# Altium integrated library Infineon_Power_IGBT.IntLib: 226 symbols (part 1 of 8)
Pins are listed as number, name and electrical type; pins without a type are passive.

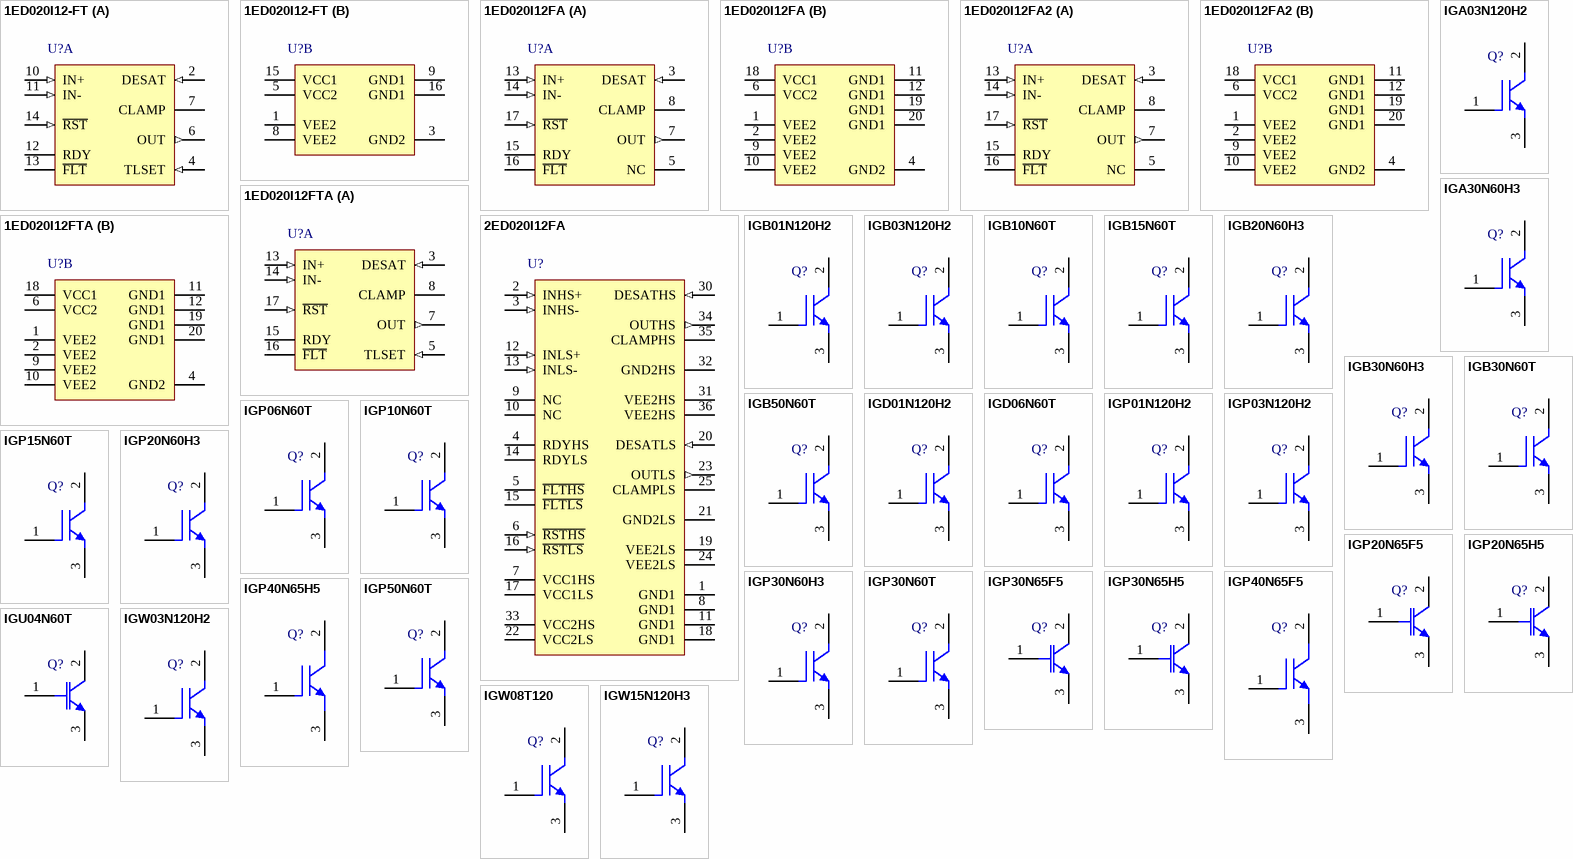
[diagram p0: symbols 1ED020I12-FT to IGW15N120H3]

## 1ED020I12-FT
designator U?
Single IGBT Driver IC, PG-DSO-16-15, Reel, Green; Manufacturer: Infineon; PartNumber: 1ED020I12-FT; Fault Reporting: DESAT; Green: TRUE; Shutdown/Enable: /RST; Tj (max): 150 degC; Turn On Propagation Delay (max): 2,000 ns; UVLO_ON_max: 12.6 V; DatasheetVersion: Rev. 2.0; PackageVersion: Rev. 02, 07/2012; PackageReference: PG-DSO-16-15; PackageDescription: 16-Pin Plastic (Green) Dual Small Outline Package, 10.34 x 7.505 mm Body, 1.27 mm Pitch; Halogen-free: TRUE; Topology: Single; Mounting Technology: Surface Mount; ComponentLink1Description: Manufacturer URL; ComponentLink1URL: http://www.infineon.com/; ComponentLink2Description: Datasheet; ComponentLink2URL: http://www.infineon.com/dgdl/1ED020I12-FT_DS_rev2+0.pdf?folderId=db3a30432b16d655012b33fafdac11e2&fileId=db3a304333227b5e013344c578544cc4; ComponentLink3Description: Package Specification; ComponentLink3URL: http://www.infineon.com/dgdl/1ED020I12-B2_DS_rev2+0.pdf?folderId=db3a30432b16d655012b33fafdac11e2&fileId=db3a304333227b5e013344bf16f84ca6
footprint INF-PG-DSO-16-15_A_N (SOP, 16-Leads, Body 10.34x7.505mm, Pitch 1.27mm, IPC Medium Density)
footprint INF-PG-DSO-16-15_A_L (SOP, 16-Leads, Body 10.34x7.505mm, Pitch 1.27mm, IPC High Density)
footprint INF-PG-DSO-16-15_A_M (SOP, 16-Leads, Body 10.34x7.505mm, Pitch 1.27mm, IPC Low Density)
part A pins: 2 DESAT (in) "Desaturation protection", 4 TLSET (in) "Two level set", 6 OUT (out) "Driver output", 7 CLAMP "Miller clamping", 10 IN+ (in) "Non inverted driver input", 11 IN- (in) "Inverted driver input", 12 RDY (oc) "Ready output", 13 ~{FLT} (oc) "Fault output, low active", 14 ~{RST} (in) "Reset input, low active"
part B pins: 1 VEE2 (power) "Negative power supply output side", 3 GND2 (power) "Signal ground output side", 5 VCC2 (power) "Positive power supply output side", 8 VEE2 (power) "Negative power supply output side", 9 GND1 (power) "Ground input side", 15 VCC1 (power) "Positive power supply input side", 16 GND1 (power) "Ground input side"

## 1ED020I12FA
designator U?
Single IGBT Driver IC, PG-DSO-20-55, Reel, Green; Manufacturer: Infineon; PartNumber: 1ED020I12FA; Fault Reporting: DESAT; Green: TRUE; Shutdown/Enable: /RST; Tj (max): 150 degC; Topology: Single (Automotive Qualified); Turn On Propagation Delay (max): 205 ns; UVLO_ON_max: 12.6 V; DatasheetVersion: Rev. 2.1; PackageVersion: Dec-12; PackageReference: PG-DSO-20-55; PackageDescription: 20-Pin Plastic (Green) Dual Small Outline Package, 12.7 x 7.5 mm Body, 1.27 mm Pitch; Supplier 1: Mouser; Supplier Part Number 1: N/A; Halogen-free: TRUE; Mounting Technology: Surface Mount; ComponentLink1Description: Manufacturer URL; ComponentLink1URL: http://www.infineon.com/; ComponentLink2Description: Datasheet; ComponentLink2URL: http://www.infineon.com/dgdl/Datasheet_1ED020I12FA_V2+1.pdf?folderId=db3a30431a5c32f2011a77fa27a86cb5&fileId=db3a30431b3e89eb011bb25ba9350792; ComponentLink3Description: Package Specification; ComponentLink3URL: http://www.infineon.com/dgdl/1ED020I12FA2_PDS_rev1.2.pdf?folderId=db3a30432b16d655012b33fafdac11e2&fileId=db3a304333227b5e013344d078be4cdf
footprint INF-PG-DSO-20-55_N (SOP, 20-Leads, Body 12.7x7.5mm, Pitch 1.27mm, IPC Medium Density)
footprint INF-PG-DSO-20-55_L (SOP, 20-Leads, Body 12.7x7.5mm, Pitch 1.27mm, IPC High Density)
footprint INF-PG-DSO-20-55_M (SOP, 20-Leads, Body 12.7x7.5mm, Pitch 1.27mm, IPC Low Density)
part A pins: 3 DESAT (in) "Desaturation protection", 5 NC "Not connected", 7 OUT (out) "Driver output", 8 CLAMP "Miller clamping", 13 IN+ (in) "Non inverted driver input", 14 IN- (in) "Inverted driver input", 15 RDY (oc) "Ready output", 16 ~{FLT} (oc) "Fault output, low active", 17 ~{RST} (in) "Reset input, low active"
part B pins: 1 VEE2 (power) "Negative power supply output side", 2 VEE2 (power) "Negative power supply output side", 4 GND2 (power) "Signal ground output side", 6 VCC2 (power) "Positive power supply output side", 9 VEE2 (power) "Negative power supply output side", 10 VEE2 (power) "Negative power supply output side", 11 GND1 (power) "Ground input side", 12 GND1 (power) "Ground input side", 18 VCC1 (power) "Positive power supply input side", 19 GND1 (power) "Ground input side", 20 GND1 (power) "Ground input side"

## 1ED020I12FA2
designator U?
Single IGBT Driver IC, PG-DSO-20-55, Reel, Green; Manufacturer: Infineon; PartNumber: 1ED020I12FA2; Fault Reporting: DESAT; Green: TRUE; Shutdown/Enable: /RST; Tj (max): 150 degC; Topology: Single (Automotive Qualified); Turn On Propagation Delay (max): 195 ns; UVLO_ON_max: 12.6 V; DatasheetVersion: Rev. 1.2; PackageVersion: Dec-12; PackageReference: PG-DSO-20-55; PackageDescription: 20-Pin Plastic (Green) Dual Small Outline Package, 12.7 x 7.5 mm Body, 1.27 mm Pitch; Supplier 1: Mouser; Supplier Part Number 1: N/A; Halogen-free: TRUE; Mounting Technology: Surface Mount; ComponentLink1Description: Manufacturer URL; ComponentLink1URL: http://www.infineon.com/; ComponentLink2Description: Datasheet; ComponentLink2URL: http://www.infineon.com/dgdl/1ED020I12FA2_PDS_rev1.2.pdf?folderId=db3a30432b16d655012b33fafdac11e2&fileId=db3a304333227b5e013344d078be4cdf; ComponentLink3Description: Package Specification; ComponentLink3URL: http://www.infineon.com/dgdl/1ED020I12FA2_PDS_rev1.2.pdf?folderId=db3a30432b16d655012b33fafdac11e2&fileId=db3a304333227b5e013344d078be4cdf
footprint INF-PG-DSO-20-55_N (SOP, 20-Leads, Body 12.7x7.5mm, Pitch 1.27mm, IPC Medium Density)
footprint INF-PG-DSO-20-55_L (SOP, 20-Leads, Body 12.7x7.5mm, Pitch 1.27mm, IPC High Density)
footprint INF-PG-DSO-20-55_M (SOP, 20-Leads, Body 12.7x7.5mm, Pitch 1.27mm, IPC Low Density)
part A pins: 3 DESAT (in) "Desaturation protection", 5 NC "Not connected", 7 OUT (out) "Driver output", 8 CLAMP "Miller clamping", 13 IN+ (in) "Non inverted driver input", 14 IN- (in) "Inverted driver input", 15 RDY (oc) "Ready output", 16 ~{FLT} (oc) "Fault output, low active", 17 ~{RST} (in) "Reset input, low active"
part B pins: 1 VEE2 (power) "Negative power supply output side", 2 VEE2 (power) "Negative power supply output side", 4 GND2 (power) "Signal ground output side", 6 VCC2 (power) "Positive power supply output side", 9 VEE2 (power) "Negative power supply output side", 10 VEE2 (power) "Negative power supply output side", 11 GND1 (power) "Ground input side", 12 GND1 (power) "Ground input side", 18 VCC1 (power) "Positive power supply input side", 19 GND1 (power) "Ground input side", 20 GND1 (power) "Ground input side"

## 1ED020I12FTA
designator U?
Single IGBT Driver IC, PG-DSO-20-55, Reel, Green; Manufacturer: Infineon; PartNumber: 1ED020I12FTA; Fault Reporting: DESAT; Green: TRUE; Shutdown/Enable: /RST; Tj (max): 150 degC; Topology: Single (Automotive Qualified); Turn On Propagation Delay (max): 2,000 ns; UVLO_ON_max: 12.6 V; DatasheetVersion: Rev. 2.0; PackageVersion: Dec-12; PackageReference: PG-DSO-20-55; PackageDescription: 20-Pin Plastic (Green) Dual Small Outline Package, 12.7 x 7.5 mm Body, 1.27 mm Pitch; Halogen-free: TRUE; Mounting Technology: Surface Mount; ComponentLink1Description: Manufacturer URL; ComponentLink1URL: http://www.infineon.com/; ComponentLink2Description: Datasheet; ComponentLink2URL: http://www.infineon.com/dgdl/DS_1ED020I12FTA_rev2_0.pdf?folderId=db3a30432b16d655012b33fafdac11e2&fileId=db3a30432e779412012e7b85bdb73874; ComponentLink3Description: Package Specification; ComponentLink3URL: http://www.infineon.com/dgdl/1ED020I12FA2_PDS_rev1.2.pdf?folderId=db3a30432b16d655012b33fafdac11e2&fileId=db3a304333227b5e013344d078be4cdf
footprint INF-PG-DSO-20-55_N (SOP, 20-Leads, Body 12.7x7.5mm, Pitch 1.27mm, IPC Medium Density)
footprint INF-PG-DSO-20-55_L (SOP, 20-Leads, Body 12.7x7.5mm, Pitch 1.27mm, IPC High Density)
footprint INF-PG-DSO-20-55_M (SOP, 20-Leads, Body 12.7x7.5mm, Pitch 1.27mm, IPC Low Density)
part A pins: 3 DESAT (in) "Desaturation protection", 5 TLSET (in) "Two level set", 7 OUT (out) "Driver output", 8 CLAMP "Miller clamping", 13 IN+ (in) "Non inverted driver input", 14 IN- (in) "Inverted driver input", 15 RDY (oc) "Ready output", 16 ~{FLT} (oc) "Fault output, low active", 17 ~{RST} (in) "Reset input, low active"
part B pins: 1 VEE2 (power) "Negative power supply output side", 2 VEE2 (power) "Negative power supply output side", 4 GND2 (power) "Signal ground output side", 6 VCC2 (power) "Positive power supply output side", 9 VEE2 (power) "Negative power supply output side", 10 VEE2 (power) "Negative power supply output side", 11 GND1 (power) "Ground input side", 12 GND1 (power) "Ground input side", 18 VCC1 (power) "Positive power supply input side", 19 GND1 (power) "Ground input side", 20 GND1 (power) "Ground input side"

## 2ED020I12FA
designator U?
Dual IGBT Driver IC, PG-DSO-36-58, Reel, Green; Manufacturer: Infineon; PartNumber: 2ED020I12FA; Fault Reporting: DESAT; Green: TRUE; Shutdown/Enable: /RST; Tj (max): 150 degC; Topology: Dual (Automotive Qualified); Turn On Propagation Delay (max): 195 ns; UVLO_ON_max: 12.6 V; DatasheetVersion: Rev. 2.0; PackageVersion: Rev. 02, 03/2011; PackageReference: PG-DSO-36-58; PackageDescription: 36-Pin Plastic (Green) Dual Small Outline Package, 12.7 x 7.5 mm Body, 0.65 mm Ptich; Halogen-free: TRUE; Mounting Technology: Surface Mount; ComponentLink1Description: Manufacturer URL; ComponentLink1URL: http://www.infineon.com/; ComponentLink2Description: Datasheet; ComponentLink2URL: http://www.infineon.com/dgdl/2ED020I12FA_DS_rev2.pdf?folderId=db3a30432b16d655012b33fafdac11e2&fileId=db3a30432e779412012e7b87d2b23878; ComponentLink3Description: Package Specification; ComponentLink3URL: http://www.infineon.com/dgdl/2ED020I12-F2_DS_rev2+0.pdf?folderId=db3a30432b16d655012b33fafdac11e2&fileId=db3a304333227b5e013344c70fc64cc8
footprint INF-PG-DSO-36-58_N (SOP, 32-Leads, Body 12.7x7.5mm, Pitch 0.65mm, IPC Medium Density)
footprint INF-PG-DSO-36-58_L (SOP, 32-Leads, Body 12.7x7.5mm, Pitch 0.65mm, IPC High Density)
footprint INF-PG-DSO-36-58_M (SOP, 32-Leads, Body 12.7x7.5mm, Pitch 0.65mm, IPC Low Density)
pins: 1 GND1 (power) "Common ground input side", 2 INHS+ (in) "Non inverted driver input high side", 3 INHS- (in) "Inverted driver input high side", 4 RDYHS (oc) "Ready output high side", 5 ~{FLTHS} (oc) "Inverted fault output high side", 6 ~{RSTHS} (in) "Inverted reset input high side", 7 VCC1HS (power) "Positive power supply input high side", 8 GND1 (power) "Common ground input side", 9 NC "Not used, internally connected to Pin 10", 10 NC "Not used, internally connected to Pin 9", 11 GND1 (power) "Common ground input side", 12 INLS+ (in) "Non inverted driver input low side", 13 INLS- (in) "Inverted driver input lowside", 14 RDYLS (oc) "Ready output low side", 15 ~{FLTLS} (oc) "Inverted fault output low side", 16 ~{RSTLS} (in) "Inverted reset input low side", 17 VCC1LS (power) "Positive power supply input low side", 18 GND1 (power) "Common ground input side", 19 VEE2LS (power) "Negative power supply low side driver", 20 DESATLS (in) "Desaturation protection low side driver", 21 GND2LS (power) "Signal ground low side driver", 22 VCC2LS (power) "Power supply low side driver", 23 OUTLS (out) "Output low side driver", 24 VEE2LS (power) "Negative power supply low side driver", 25 CLAMPLS "Miller clamping low side driver", 30 DESATHS (in) "Desaturation protection high side driver", 31 VEE2HS (power) "Negative power supply high side driver", 32 GND2HS (power) "Signal ground high side driver", 33 VCC2HS (power) "Power supply high side driver", 34 OUTHS (out) "Output high side driver", 35 CLAMPHS "Miller clamping high side driver", 36 VEE2HS (power) "Negative power supply high side driver"

## IGA03N120H2
designator Q?
High Speed 2-Technology IGBT, PG-TO-220-3-31, Tube, Green; Manufacturer: Infineon; PartNumber: IGA03N120H2; Green: TRUE; Switching Frequency: HighSpeed2 30-100 kHz; VCE (max): 1,200 V; VCE(sat) (typ): 2.2 V; DatasheetVersion: Rev. 2.2; PackageVersion: Jul-06; PackageReference: PG-TO-220-3-31; PackageDescription: 3-Pin Plastic (Green) Transistor Single Outline Package, 10.5 x 4.7 mm, 2.54 mm Pitch; Supplier 1: Mouser; Supplier Part Number 1: 726-IGA03N120H2; Supplier 2: Newark; Supplier Part Number 2: 13T9407; Supplier 3: Farnell; Supplier Part Number 3: 1832369; Supplier 4: Digi-Key; Supplier Part Number 4: IGA03N120H2-ND; Halogen-free: FALSE; Packing: Tube; Mounting Technology: Through Hole; ComponentLink1Description: Manufacturer URL; ComponentLink1URL: http://www.infineon.com/; ComponentLink2Description: Datasheet; ComponentLink2URL: http://www.infineon.com/dgdl/IGA03N120H2_Rev2_2G.pdf?folderId=db3a304412b407950112b408e8c90004&fileId=db3a304412b407950112b427a9d73c91; ComponentLink3Description: Package Specification; ComponentLink3URL: http://www.infineon.com/dgdl/IKA03N120H2_Rev2_2G.pdf?folderId=db3a304412b407950112b408e8c90004&fileId=db3a304412b407950112b428518b3dcb
footprint INF-PG-TO-220-3-31 (FM, 3-Leads, Body 10.5x4.7mm, Pitch 2.54mm)
pins: 1 G, 2 C, 3 E

## IGA30N60H3
designator Q?
High Speed Switching Series Third Generation, PG-TO-220-3-31, Tube, Green; Manufacturer: Infineon; PartNumber: IGA30N60H3; Green: TRUE; IC(max) @ 100 degC: 11 A; IC(max) @ 25 degC: 18 A; Switching Frequency: HighSpeed3 20-100kHz; VCE (max): 600 V; VCE(sat) (typ): 1.95 V; DatasheetVersion: Rev. 2.1; PackageVersion: Jul-06; PackageReference: PG-TO-220-3-31; PackageDescription: 3-Pin Plastic (Green) Transistor Single Outline Package, 10.5 x 4.7 mm, 2.54 mm Pitch; Supplier 1: Mouser; Supplier Part Number 1: 726-IGA30N60H3; Supplier 2: Digi-Key; Supplier Part Number 2: IGA30N60H3-ND; Halogen-free: TRUE; Packing: Tube; Mounting Technology: Through Hole; ComponentLink1Description: Manufacturer URL; ComponentLink1URL: http://www.infineon.com/; ComponentLink2Description: Datasheet; ComponentLink2URL: http://www.infineon.com/dgdl/IGA30N60H3_Rev2_1G.pdf?folderId=db3a3043156fd5730115f56849b61941&fileId=db3a30432a14dd54012a1d771f65563f; ComponentLink3Description: Package Specification; ComponentLink3URL: http://www.infineon.com/dgdl/IKA03N120H2_Rev2_2G.pdf?folderId=db3a304412b407950112b408e8c90004&fileId=db3a304412b407950112b428518b3dcb
footprint INF-PG-TO-220-3-31 (FM, 3-Leads, Body 10.5x4.7mm, Pitch 2.54mm)
pins: 1 G, 2 C, 3 E

## IGB01N120H2
designator Q?
High Speed 2-Technology IGBT, PG-TO-263-3-2, Reel, Green; Manufacturer: Infineon; PartNumber: IGB01N120H2; Green: TRUE; IC(max) @ 100 degC: 1.3 A; IC(max) @ 25 degC: 3.2 A; Switching Frequency: HighSpeed2 30-100 kHz; VCE (max): 1,200 V; VCE(sat) (typ): 2.2 V; DatasheetVersion: Rev. 2.4; PackageVersion: Rev. 01, 08/2007; PackageReference: PG-TO263-3-2; PackageDescription: 3-Pin Plastic (Green) Transistor Single Outline Package, 10.1 x 8.98 mm Body, 2.54 mm Pitch; Supplier 1: Mouser; Supplier Part Number 1: 726-IGB01N120H2; Supplier 2: Digi-Key; Supplier Part Number 2: IGB01N120H2-ND; Halogen-free: TRUE; Packing: Reel; Mounting Technology: Surface Mount; ComponentLink1Description: Manufacturer URL; ComponentLink1URL: http://www.infineon.com/; ComponentLink2Description: Datasheet; ComponentLink2URL: http://www.infineon.com/dgdl/IGB01N120H2_Rev2_4G.pdf?folderId=db3a304412b407950112b408e8c90004&fileId=db3a304412b407950112b427a4883c86; ComponentLink3Description: Package Specification; ComponentLink3URL: http://www.infineon.com/dgdl/SPB80P06P+G_Rev+1.6_.pdf?folderId=db3a304412b407950112b408e8c90004&fileId=db3a304412b407950112b42add964408
footprint INF-PG-TO263-3-2_A_N (DPAK, 3-Leads, Body 10.1x8.98mm, Pitch 2.54mm, IPC Medium Density)
footprint INF-PG-TO263-3-2_A_L (DPAK, 3-Leads, Body 10.1x8.98mm, Pitch 2.54mm, IPC High Density)
footprint INF-PG-TO263-3-2_A_M (DPAK, 3-Leads, Body 10.1x8.98mm, Pitch 2.54mm, IPC Low Density)
pins: 1 G, 2 C, 3 E

## IGB03N120H2
designator Q?
High Speed 2-Technology IGBT, PG-TO-263-3-2, Reel, Green; Manufacturer: Infineon; PartNumber: IGB03N120H2; Green: TRUE; IC(max) @ 100 degC: 3.9 A; IC(max) @ 25 degC: 9.6 A; Switching Frequency: HighSpeed2 30-100 kHz; VCE (max): 1,200 V; VCE(sat) (typ): 2.2 V; DatasheetVersion: Rev. 2.4; PackageVersion: Rev. 01, 08/2007; PackageReference: PG-TO-263-3-2; PackageDescription: 3-Pin Plastic (Green) Transistor Single Outline Package, 10.06 x 8.98 mm Body, 2.54 mm Pitch; Supplier 1: Mouser; Supplier Part Number 1: 726-IGB03N120H2; Supplier 2: Newark; Supplier Part Number 2: 31T8231; Supplier 3: Farnell; Supplier Part Number 3: 1832370; Supplier 4: Digi-Key; Supplier Part Number 4: IGB03N120H2-ND; Halogen-free: TRUE; Packing: Reel; Mounting Technology: Surface Mount; ComponentLink1Description: Manufacturer URL; ComponentLink1URL: http://www.infineon.com/; ComponentLink2Description: Datasheet; ComponentLink2URL: http://www.infineon.com/dgdl/IGB03N120H2_Rev2_4G.pdf?folderId=db3a304412b407950112b408e8c90004&fileId=db3a304412b407950112b427af0c3c99; ComponentLink3Description: Package Specification; ComponentLink3URL: http://www.infineon.com/dgdl/IPB026N06N_Rev2.2.pdf?folderId=db3a304313b8b5a60113cee8763b02d7&fileId=db3a3043372d5cc8013754c7b2a74f7c
footprint INF-PG-TO-263-3-2_A_N (DPAK, 3-Leads, Body 10.06x8.98mm, Pitch 2.54mm, IPC Medium Density)
footprint INF-PG-TO-263-3-2_A_L (DPAK, 3-Leads, Body 10.06x8.98mm, Pitch 2.54mm, IPC High Density)
footprint INF-PG-TO-263-3-2_A_M (DPAK, 3-Leads, Body 10.06x8.98mm, Pitch 2.54mm, IPC Low Density)
pins: 1 G, 2 C, 3 E

## IGB10N60T
designator Q?
Low Loss IGBT in TrenchStop and Fieldstop Technology, PG-TO-263-3-2, Reel, Green; Manufacturer: Infineon; PartNumber: IGB10N60T; Green: TRUE; IC(max) @ 100 degC: 10 A; IC(max) @ 25 degC: 20 A; Switching Frequency: TRENCHSTOP 2-20kHz; VCE (max): 600 V; VCE(sat) (typ): 1.5 V; DatasheetVersion: Rev. 1.2; PackageVersion: Rev. 01, 08/2007; PackageReference: PG-TO-263-3-2; PackageDescription: 3-Pin Plastic (Green) Transistor Single Outline Package, 10.06 x 8.98 mm Body, 2.54 mm Pitch; Supplier 1: Mouser; Supplier Part Number 1: 726-IGB10N60T; Supplier 2: Newark; Supplier Part Number 2: 13T9409; Supplier 3: Farnell; Supplier Part Number 3: 1832352; Supplier 4: Digi-Key; Supplier Part Number 4: IGB10N60TTR-ND; Supplier 5: Digi-Key; Supplier Part Number 5: IGB10N60TCT-ND; Supplier 6: Digi-Key; Supplier Part Number 6: IGB10N60TDKR-ND; Halogen-free: TRUE; Packing: Reel; Mounting Technology: Surface Mount; ComponentLink1Description: Manufacturer URL; ComponentLink1URL: http://www.infineon.com/; ComponentLink2Description: Datasheet; ComponentLink2URL: http://www.infineon.com/dgdl/IGB10N60T_Rev1_2G.pdf?folderId=db3a30431c69a49d011c6f86019b00a1&fileId=db3a30431ed1d7b2011f4a5040f45e92; ComponentLink3Description: Package Specification; ComponentLink3URL: http://www.infineon.com/dgdl/IPB026N06N_Rev2.2.pdf?folderId=db3a304313b8b5a60113cee8763b02d7&fileId=db3a3043372d5cc8013754c7b2a74f7c
footprint INF-PG-TO-263-3-2_A_N (DPAK, 3-Leads, Body 10.06x8.98mm, Pitch 2.54mm, IPC Medium Density)
footprint INF-PG-TO-263-3-2_A_L (DPAK, 3-Leads, Body 10.06x8.98mm, Pitch 2.54mm, IPC High Density)
footprint INF-PG-TO-263-3-2_A_M (DPAK, 3-Leads, Body 10.06x8.98mm, Pitch 2.54mm, IPC Low Density)
pins: 1 G, 2 C, 3 E

## IGB15N60T
designator Q?
Low Loss IGBT in TrenchStop Technology, PG-TO-263-3-2, Reel, Green; Manufacturer: Infineon; PartNumber: IGB15N60T; Green: TRUE; IC(max) @ 100 degC: 15 A; IC(max) @ 25 degC: 30 A; Switching Frequency: TRENCHSTOP 2-20kHz; VCE (max): 600 V; VCE(sat) (typ): 1.5 V; DatasheetVersion: Rev. 2.4; PackageVersion: Rev. 01, 08/2007; PackageReference: PG-TO-263-3-2; PackageDescription: 3-Pin Plastic (Green) Transistor Single Outline Package, 10.06 x 8.98 mm Body, 2.54 mm Pitch; Supplier 1: Mouser; Supplier Part Number 1: 726-IGB15N60T; Supplier 2: Newark; Supplier Part Number 2: 13T9410; Supplier 3: Farnell; Supplier Part Number 3: 1832353; Supplier 4: Digi-Key; Supplier Part Number 4: IGB15N60T-ND; Halogen-free: TRUE; Packing: Reel; Mounting Technology: Surface Mount; ComponentLink1Description: Manufacturer URL; ComponentLink1URL: http://www.infineon.com/; ComponentLink2Description: Datasheet; ComponentLink2URL: http://www.infineon.com/dgdl/IGB15N60T+Rev2_4G.pdf?folderId=db3a304412b407950112b408e8c90004&fileId=db3a304412b407950112b428077f3d42; ComponentLink3Description: Package Specification; ComponentLink3URL: http://www.infineon.com/dgdl/IPB026N06N_Rev2.2.pdf?folderId=db3a304313b8b5a60113cee8763b02d7&fileId=db3a3043372d5cc8013754c7b2a74f7c
footprint INF-PG-TO-263-3-2_A_N (DPAK, 3-Leads, Body 10.06x8.98mm, Pitch 2.54mm, IPC Medium Density)
footprint INF-PG-TO-263-3-2_A_L (DPAK, 3-Leads, Body 10.06x8.98mm, Pitch 2.54mm, IPC High Density)
footprint INF-PG-TO-263-3-2_A_M (DPAK, 3-Leads, Body 10.06x8.98mm, Pitch 2.54mm, IPC Low Density)
pins: 1 G, 2 C, 3 E

## IGB20N60H3
designator Q?
600 V High Speed Switching Series Third Generation, PG-TO-263-3-2, Reel, Green; Manufacturer: Infineon; PartNumber: IGB20N60H3; Green: TRUE; IC(max) @ 100 degC: 20 A; IC(max) @ 25 degC: 40 A; Switching Frequency: HighSpeed3 20-100kHz; VCE (max): 600 V; VCE(sat) (typ): 1.95 V; DatasheetVersion: Rev. 1.1; PackageVersion: Rev. 01, 08/2007; PackageReference: PG-TO-263-3-2; PackageDescription: 3-Pin Plastic (Green) Transistor Single Outline Package, 10.06 x 8.98 mm Body, 2.54 mm Pitch; Supplier 1: Mouser; Supplier Part Number 1: 726-IGB20N60H3; Supplier 2: Digi-Key; Supplier Part Number 2: IGB20N60H3TR-ND; Supplier 3: Digi-Key; Supplier Part Number 3: IGB20N60H3CT-ND; Supplier 4: Digi-Key; Supplier Part Number 4: IGB20N60H3DKR-ND; Halogen-free: TRUE; Packing: Reel; Mounting Technology: Surface Mount; ComponentLink1Description: Manufacturer URL; ComponentLink1URL: http://www.infineon.com/; ComponentLink2Description: Datasheet; ComponentLink2URL: http://www.infineon.com/dgdl/IGB20N60H3_Rev1_1G.pdf?folderId=db3a30431c69a49d011c6f86019b00a1&fileId=db3a30432a40a650012a4677106a2b6d; ComponentLink3Description: Package Specification; ComponentLink3URL: http://www.infineon.com/dgdl/IPB026N06N_Rev2.2.pdf?folderId=db3a304313b8b5a60113cee8763b02d7&fileId=db3a3043372d5cc8013754c7b2a74f7c
footprint INF-PG-TO-263-3-2_A_N (DPAK, 3-Leads, Body 10.06x8.98mm, Pitch 2.54mm, IPC Medium Density)
footprint INF-PG-TO-263-3-2_A_L (DPAK, 3-Leads, Body 10.06x8.98mm, Pitch 2.54mm, IPC High Density)
footprint INF-PG-TO-263-3-2_A_M (DPAK, 3-Leads, Body 10.06x8.98mm, Pitch 2.54mm, IPC Low Density)
pins: 1 G, 2 C, 3 E

## IGB30N60H3
designator Q?
600 V High Speed Switching Series Third Generation, PG-TO-263-3-2, Reel, Green; Manufacturer: Infineon; PartNumber: IGB30N60H3; Green: TRUE; IC(max) @ 100 degC: 30 A; IC(max) @ 25 degC: 60 A; Switching Frequency: HighSpeed3 20-100kHz; VCE (max): 600 V; VCE(sat) (typ): 1.95 V; DatasheetVersion: Rev. 1.1; PackageVersion: Rev. 01, 08/2007; PackageReference: PG-TO-263-3-2; PackageDescription: 3-Pin Plastic (Green) Transistor Single Outline Package, 10.06 x 8.98 mm Body, 2.54 mm Pitch; Supplier 1: Mouser; Supplier Part Number 1: 726-IGB30N60H3; Supplier 2: Digi-Key; Supplier Part Number 2: IGB30N60H3TR-ND; Supplier 3: Digi-Key; Supplier Part Number 3: IGB30N60H3CT-ND; Supplier 4: Digi-Key; Supplier Part Number 4: IGB30N60H3DKR-ND; Halogen-free: TRUE; Packing: Reel; Mounting Technology: Surface Mount; ComponentLink1Description: Manufacturer URL; ComponentLink1URL: http://www.infineon.com/; ComponentLink2Description: Datasheet; ComponentLink2URL: http://www.infineon.com/dgdl/IGB30N60H3_Rev1_1G.pdf?folderId=db3a30431c69a49d011c6f86019b00a1&fileId=db3a30432a40a650012a46d3374d2b96; ComponentLink3Description: Package Specification; ComponentLink3URL: http://www.infineon.com/dgdl/IPB026N06N_Rev2.2.pdf?folderId=db3a304313b8b5a60113cee8763b02d7&fileId=db3a3043372d5cc8013754c7b2a74f7c
footprint INF-PG-TO-263-3-2_A_N (DPAK, 3-Leads, Body 10.06x8.98mm, Pitch 2.54mm, IPC Medium Density)
footprint INF-PG-TO-263-3-2_A_L (DPAK, 3-Leads, Body 10.06x8.98mm, Pitch 2.54mm, IPC High Density)
footprint INF-PG-TO-263-3-2_A_M (DPAK, 3-Leads, Body 10.06x8.98mm, Pitch 2.54mm, IPC Low Density)
pins: 1 G, 2 C, 3 E

## IGB30N60T
designator Q?
Low Loss IGBT in TrenchStop Technology, PG-TO-263-3-2, Reel, Green; Manufacturer: Infineon; PartNumber: IGB30N60T; Green: TRUE; IC(max) @ 100 degC: 30 A; IC(max) @ 25 degC: 60 A; Switching Frequency: TRENCHSTOP(TM) 2-20kHz; VCE (max): 600 V; VCE(sat) (typ): 1.5 V; DatasheetVersion: Rev. 2.3; PackageVersion: Rev. 01, 08/2007; PackageReference: PG-TO-263-3-2; PackageDescription: 3-Pin Plastic (Green) Transistor Single Outline Package, 10.06 x 8.98 mm Body, 2.54 mm Pitch; Supplier 1: Mouser; Supplier Part Number 1: 726-IGB30N60T; Supplier 2: Digi-Key; Supplier Part Number 2: IGB30N60T-ND; Halogen-free: TRUE; Packing: Reel; Mounting Technology: Surface Mount; ComponentLink1Description: Manufacturer URL; ComponentLink1URL: http://www.infineon.com/; ComponentLink2Description: Datasheet; ComponentLink2URL: http://www.infineon.com/dgdl/IGB30N60T+Rev2_3G.pdf?folderId=db3a304412b407950112b408e8c90004&fileId=db3a304412b407950112b4280cd93d4a; ComponentLink3Description: Package Specification; ComponentLink3URL: http://www.infineon.com/dgdl/IPB026N06N_Rev2.2.pdf?folderId=db3a304313b8b5a60113cee8763b02d7&fileId=db3a3043372d5cc8013754c7b2a74f7c
footprint INF-PG-TO-263-3-2_A_N (DPAK, 3-Leads, Body 10.06x8.98mm, Pitch 2.54mm, IPC Medium Density)
footprint INF-PG-TO-263-3-2_A_L (DPAK, 3-Leads, Body 10.06x8.98mm, Pitch 2.54mm, IPC High Density)
footprint INF-PG-TO-263-3-2_A_M (DPAK, 3-Leads, Body 10.06x8.98mm, Pitch 2.54mm, IPC Low Density)
pins: 1 G, 2 C, 3 E

## IGB50N60T
designator Q?
Low Loss IGBT in TrenchStop Technology, PG-TO-263-3-2, Reel, Green; Manufacturer: Infineon; PartNumber: IGB50N60T; Green: TRUE; IC(max) @ 100 degC: 50 A; IC(max) @ 25 degC: 100 A; Switching Frequency: TRENCHSTOP(TM) 2-20kHz; VCE (max): 600 V; VCE(sat) (typ): 1.5 V; DatasheetVersion: Rev. 2.5; PackageVersion: Rev. 01, 08/2007; PackageReference: PG-TO-263-3-2; PackageDescription: 3-Pin Plastic (Green) Transistor Single Outline Package, 10.06 x 8.98 mm Body, 2.54 mm Pitch; Supplier 1: Mouser; Supplier Part Number 1: 726-IGB50N60T; Supplier 2: Digi-Key; Supplier Part Number 2: IGB50N60TTR-ND; Supplier 3: Digi-Key; Supplier Part Number 3: IGB50N60TCT-ND; Supplier 4: Digi-Key; Supplier Part Number 4: IGB50N60TDKR-ND; Halogen-free: TRUE; Packing: Reel; Mounting Technology: Surface Mount; ComponentLink1Description: Manufacturer URL; ComponentLink1URL: http://www.infineon.com/; ComponentLink2Description: Datasheet; ComponentLink2URL: http://www.infineon.com/dgdl/IGB50N60T_Rev2_5G.pdf?folderId=db3a304412b407950112b408e8c90004&fileId=db3a304412b407950112b42812613d55; ComponentLink3Description: Package Specification; ComponentLink3URL: http://www.infineon.com/dgdl/IPB026N06N_Rev2.2.pdf?folderId=db3a304313b8b5a60113cee8763b02d7&fileId=db3a3043372d5cc8013754c7b2a74f7c
footprint INF-PG-TO-263-3-2_A_N (DPAK, 3-Leads, Body 10.06x8.98mm, Pitch 2.54mm, IPC Medium Density)
footprint INF-PG-TO-263-3-2_A_L (DPAK, 3-Leads, Body 10.06x8.98mm, Pitch 2.54mm, IPC High Density)
footprint INF-PG-TO-263-3-2_A_M (DPAK, 3-Leads, Body 10.06x8.98mm, Pitch 2.54mm, IPC Low Density)
pins: 1 G, 2 C, 3 E

## IGD01N120H2
designator Q?
High Speed 2-Technology IGBT, PG-TO-252-3-11, Reel, Green; Manufacturer: Infineon; PartNumber: IGD01N120H2; Green: TRUE; IC(max) @ 100 degC: 1.3 A; IC(max) @ 25 degC: 3.2 A; Switching Frequency: HighSpeed2 30-100 kHz; VCE (max): 1,200 V; VCE(sat) (typ): 2.2 V; DatasheetVersion: Rev. 2.4; PackageVersion: Rev. 02, 03/2007; PackageReference: PG-TO252-3-11; PackageDescription: 3-Pin Plastic (Green) Transistor Single Outline Package, 6.57 x 6.1 mm Body, 2.29 mm Pitch; Supplier 1: Mouser; Supplier Part Number 1: 726-IGD01N120H2; Supplier 2: Digi-Key; Supplier Part Number 2: IGD01N120H2-ND; Halogen-free: FALSE; Packing: Reel; Mounting Technology: Surface Mount; ComponentLink1Description: Manufacturer URL; ComponentLink1URL: http://www.infineon.com/; ComponentLink2Description: Datasheet; ComponentLink2URL: http://www.infineon.com/dgdl/IGP_D01N120H2_Rev2_4G.pdf?folderId=db3a304412b407950112b408e8c90004&fileId=db3a304412b407950112b427a6fa3c8a; ComponentLink3Description: Package Specification; ComponentLink3URL: http://www.infineon.com/dgdl/IPD160N04L_rev1.0.pdf?folderId=db3a3043163797a6011643468e7505a4&fileId=db3a3043163797a60116436401cf05cf
footprint INF-PG-TO252-3-11_A_N (DPAK, 3-Leads, Body 6.57x6.1mm, Pitch 2.29mm, IPC Medium Density)
footprint INF-PG-TO252-3-11_A_L (DPAK, 3-Leads, Body 6.57x6.1mm, Pitch 2.29mm, IPC High Density)
footprint INF-PG-TO252-3-11_A_M (DPAK, 3-Leads, Body 6.57x6.1mm, Pitch 2.29mm, IPC Low Density)
pins: 1 G, 2 C, 3 E

## IGD06N60T
designator Q?
IGBT in TrenchStop and Fieldstop Technology, PG-TO-252-3-11, Reel, Green; Manufacturer: Infineon; PartNumber: IGD06N60T; Green: TRUE; IC(max) @ 100 degC: 6 A; IC(max) @ 25 degC: 12 A; Switching Frequency: TRENCHSTOP(TM) 2-20kHz; VCE (max): 600 V; VCE(sat) (typ): 1.5 V; PackageVersion: Rev. 02, 03/2007; PackageReference: PG-TO252-3-11; PackageDescription: 3-Pin Plastic (Green) Transistor Single Outline Package, 6.57 x 6.1 mm Body, 2.29 mm Pitch; Supplier 1: Digi-Key; Supplier Part Number 1: IGD06N60TTR-ND; Supplier 2: Digi-Key; Supplier Part Number 2: IGD06N60TCT-ND; Supplier 3: Digi-Key; Supplier Part Number 3: IGD06N60TDKR-ND; Supplier 4: Mouser; Supplier Part Number 4: 726-IGD06N60T; Halogen-free: TRUE; Packing: Reel; Mounting Technology: Surface Mount; ComponentLink1Description: Manufacturer URL; ComponentLink1URL: http://www.infineon.com/; ComponentLink2Description: Datasheet; ComponentLink2URL: http://www.infineon.com/dgdl/IGD06N60T_Rev2_1.pdf?folderId=db3a3043156fd5730115f56849b61941&fileId=db3a3043341f67a10134462432160154; ComponentLink3Description: Package Specification; ComponentLink3URL: http://www.infineon.com/dgdl/IPD160N04L_rev1.0.pdf?folderId=db3a3043163797a6011643468e7505a4&fileId=db3a3043163797a60116436401cf05cf
footprint INF-PG-TO252-3-11_A_N (DPAK, 3-Leads, Body 6.57x6.1mm, Pitch 2.29mm, IPC Medium Density)
footprint INF-PG-TO252-3-11_A_L (DPAK, 3-Leads, Body 6.57x6.1mm, Pitch 2.29mm, IPC High Density)
footprint INF-PG-TO252-3-11_A_M (DPAK, 3-Leads, Body 6.57x6.1mm, Pitch 2.29mm, IPC Low Density)
pins: 1 G, 2 C, 3 E

## IGP01N120H2
designator Q?
High Speed 2-Technology IGBT, PG-TO220-3-1, Tube, Green; Manufacturer: Infineon; PartNumber: IGP01N120H2; Green: TRUE; IC(max) @ 100 degC: 1.3 A; IC(max) @ 25 degC: 3.2 A; Switching Frequency: HighSpeed2 30-100 kHz; VCE (max): 1,200 V; VCE(sat) (typ): 2.2 V; DatasheetVersion: Rev. 2.4; PackageVersion: Jul-12; PackageReference: PG-TO220-3-1; PackageDescription: 3-Pin Plastic (Green) Transistor Single Outline Package, 10 x 9.25 mm Body, 2.54 mm Pitch; Supplier 1: Mouser; Supplier Part Number 1: 726-IGP01N120H2; Supplier 2: Digi-Key; Supplier Part Number 2: IGP01N120H2-ND; Halogen-free: TRUE; Packing: Tube; Mounting Technology: Through Hole; ComponentLink1Description: Manufacturer URL; ComponentLink1URL: http://www.infineon.com/; ComponentLink2Description: Datasheet; ComponentLink2URL: http://www.infineon.com/dgdl/IGP_D01N120H2_Rev2_4G.pdf?folderId=db3a3043156fd5730115f56849b61941&fileId=db3a304323b87bc20123b8f7495200dd; ComponentLink3Description: Package Specification; ComponentLink3URL: http://www.infineon.com/dgdl/BTS117_DS_14.pdf?folderId=db3a30431400ef68011421b54e2e0564&fileId=db3a30433a747525013abff8302d549c&location=en.Products.Automotive_ICs.Smart_High-_and_Low-Side_Switches.HITFET___TEMPFET__-_Smart_Low-Side_Switches.DATASHEET.BTS117_DS_14.pdf
footprint INF-PG-TO220-3-1 (FM, 3-Leads, Body 10x4.4mm, Pitch 2.54mm)
pins: 1 G, 2 C, 3 E

## IGP03N120H2
designator Q?
High Speed 2-Technology IGBT, PG-TO220-3-1, Tube, Green; Manufacturer: Infineon; PartNumber: IGP03N120H2; Green: TRUE; IC(max) @ 100 degC: 3.9 A; IC(max) @ 25 degC: 9.6 A; Switching Frequency: HighSpeed2 30-100 kHz; VCE (max): 1,200 V; VCE(sat) (typ): 2.2 V; DatasheetVersion: Rev. 2.6; PackageVersion: Jul-12; PackageReference: PG-TO220-3-1; PackageDescription: 3-Pin Plastic (Green) Transistor Single Outline Package, 10 x 9.25 mm Body, 2.54 mm Pitch; Supplier 1: Mouser; Supplier Part Number 1: 726-IGP03N120H2; Supplier 2: Digi-Key; Supplier Part Number 2: IGP03N120H2-ND; Halogen-free: TRUE; Packing: Tube; Mounting Technology: Through Hole; ComponentLink1Description: Manufacturer URL; ComponentLink1URL: http://www.infineon.com/; ComponentLink2Description: Datasheet; ComponentLink2URL: http://www.infineon.com/dgdl/IGP_W03N120H2_Rev2_6%5B1%5D.pdf?folderId=db3a3043156fd5730115f56849b61941&fileId=db3a304323b87bc20123b933c0ae00f4; ComponentLink3Description: Package Specification; ComponentLink3URL: http://www.infineon.com/dgdl/BTS117_DS_14.pdf?folderId=db3a30431400ef68011421b54e2e0564&fileId=db3a30433a747525013abff8302d549c&location=en.Products.Automotive_ICs.Smart_High-_and_Low-Side_Switches.HITFET___TEMPFET__-_Smart_Low-Side_Switches.DATASHEET.BTS117_DS_14.pdf
footprint INF-PG-TO220-3-1 (FM, 3-Leads, Body 10x4.4mm, Pitch 2.54mm)
pins: 1 G, 2 C, 3 E

## IGP06N60T
designator Q?
IGBT in TrenchStop and Fieldstop Technology, PG-TO220-3-1, Tube, Green; Manufacturer: Infineon; PartNumber: IGP06N60T; Green: TRUE; IC(max) @ 100 degC: 6 A; IC(max) @ 25 degC: 12 A; Switching Frequency: TRENCHSTOP 2-20kHz; VCE (max): 600 V; VCE(sat) (typ): 1.5 V; DatasheetVersion: Rev. 2.2; PackageVersion: Jul-12; PackageReference: PG-TO220-3-1; PackageDescription: 3-Pin Plastic (Green) Transistor Single Outline Package, 10 x 9.25 mm Body, 2.54 mm Pitch; Supplier 1: Mouser; Supplier Part Number 1: 726-IGP06N60T; Supplier 2: Digi-Key; Supplier Part Number 2: IGP06N60T-ND; Halogen-free: TRUE; Packing: Tube; Mounting Technology: Through Hole; ComponentLink1Description: Manufacturer URL; ComponentLink1URL: http://www.infineon.com/; ComponentLink2Description: Datasheet; ComponentLink2URL: http://www.infineon.com/dgdl/IGP06N60T+Rev2_2G%5B1%5D.pdf?folderId=db3a3043156fd5730115f56849b61941&fileId=db3a30432313ff5e0123b82d13ba7883; ComponentLink3Description: Package Specification; ComponentLink3URL: http://www.infineon.com/dgdl/BTS117_DS_14.pdf?folderId=db3a30431400ef68011421b54e2e0564&fileId=db3a30433a747525013abff8302d549c&location=en.Products.Automotive_ICs.Smart_High-_and_Low-Side_Switches.HITFET___TEMPFET__-_Smart_Low-Side_Switches.DATASHEET.BTS117_DS_14.pdf
footprint INF-PG-TO220-3-1 (FM, 3-Leads, Body 10x4.4mm, Pitch 2.54mm)
pins: 1 G, 2 C, 3 E

## IGP10N60T
designator Q?
Low Loss IGBT in TrenchStop and Fieldstop Technology, PG-TO220-3-1, Tube, Green; Manufacturer: Infineon; PartNumber: IGP10N60T; Green: TRUE; IC(max) @ 100 degC: 10 A; IC(max) @ 25 degC: 20 A; Switching Frequency: TRENCHSTOP 2-20kHz; VCE (max): 600 V; VCE(sat) (typ): 1.5 V; DatasheetVersion: Rev. 2.3; PackageVersion: Jul-12; PackageReference: PG-TO220-3-1; PackageDescription: 3-Pin Plastic (Green) Transistor Single Outline Package, 10 x 9.25 mm Body, 2.54 mm Pitch; Supplier 1: Mouser; Supplier Part Number 1: 726-IGP10N60T; Supplier 2: Digi-Key; Supplier Part Number 2: IGP10N60T-ND; Halogen-free: TRUE; Packing: Tube; Mounting Technology: Through Hole; ComponentLink1Description: Manufacturer URL; ComponentLink1URL: http://www.infineon.com/; ComponentLink2Description: Datasheet; ComponentLink2URL: http://www.infineon.com/dgdl/IGP10N60T+Rev2_3G%5B1%5D.pdf?folderId=db3a3043156fd5730115f56849b61941&fileId=db3a30432313ff5e0123b847bd617897; ComponentLink3Description: Package Specification; ComponentLink3URL: http://www.infineon.com/dgdl/BTS117_DS_14.pdf?folderId=db3a30431400ef68011421b54e2e0564&fileId=db3a30433a747525013abff8302d549c&location=en.Products.Automotive_ICs.Smart_High-_and_Low-Side_Switches.HITFET___TEMPFET__-_Smart_Low-Side_Switches.DATASHEET.BTS117_DS_14.pdf
footprint INF-PG-TO220-3-1 (FM, 3-Leads, Body 10x4.4mm, Pitch 2.54mm)
pins: 1 G, 2 C, 3 E

## IGP15N60T
designator Q?
Low Loss IGBT in TrenchStop and Fieldstop Technology, PG-TO220-3-1, Tube, Green; Manufacturer: Infineon; PartNumber: IGP15N60T; Green: TRUE; IC(max) @ 100 degC: 15 A; IC(max) @ 25 degC: 30 A; Switching Frequency: TRENCHSTOP 2-20kHz; VCE (max): 600 V; VCE(sat) (typ): 1.5 V; DatasheetVersion: Rev. 2.2; PackageVersion: Jul-12; PackageReference: PG-TO220-3-1; PackageDescription: 3-Pin Plastic (Green) Transistor Single Outline Package, 10 x 9.25 mm Body, 2.54 mm Pitch; Supplier 1: Mouser; Supplier Part Number 1: 726-IGP15N60T; Supplier 2: Digi-Key; Supplier Part Number 2: IGP15N60T-ND; Halogen-free: TRUE; Packing: Tube; Mounting Technology: Through Hole; ComponentLink1Description: Manufacturer URL; ComponentLink1URL: http://www.infineon.com/; ComponentLink2Description: Datasheet; ComponentLink2URL: http://www.infineon.com/dgdl/IGP15N60T+Rev2_2G%5B1%5D.pdf?folderId=db3a3043156fd5730115f56849b61941&fileId=db3a30432313ff5e0123b84fabee78ad; ComponentLink3Description: Package Specification; ComponentLink3URL: http://www.infineon.com/dgdl/BTS117_DS_14.pdf?folderId=db3a30431400ef68011421b54e2e0564&fileId=db3a30433a747525013abff8302d549c&location=en.Products.Automotive_ICs.Smart_High-_and_Low-Side_Switches.HITFET___TEMPFET__-_Smart_Low-Side_Switches.DATASHEET.BTS117_DS_14.pdf
footprint INF-PG-TO220-3-1 (FM, 3-Leads, Body 10x4.4mm, Pitch 2.54mm)
pins: 1 G, 2 C, 3 E

## IGP20N60H3
designator Q?
600 V High Speed Switching Series Third Generation, PG-TO220-3-1, Tube, Green; Manufacturer: Infineon; PartNumber: IGP20N60H3; Green: TRUE; IC(max) @ 100 degC: 20 A; IC(max) @ 25 degC: 40 A; Switching Frequency: HighSpeed3 20-100kHz; VCE (max): 600 V; VCE(sat) (typ): 1.95 V; DatasheetVersion: Rev. 1.2; PackageVersion: Jul-12; PackageReference: PG-TO220-3-1; PackageDescription: 3-Pin Plastic (Green) Transistor Single Outline Package, 10 x 9.25 mm Body, 2.54 mm Pitch; Supplier 1: Mouser; Supplier Part Number 1: 726-IGP20N60H3X; Supplier 2: Newark; Supplier Part Number 2: 13T9412; Supplier 3: Farnell; Supplier Part Number 3: 1832333; Supplier 4: Digi-Key; Supplier Part Number 4: IGP20N60H3-ND; Halogen-free: TRUE; Packing: Tube; Mounting Technology: Through Hole; ComponentLink1Description: Manufacturer URL; ComponentLink1URL: http://www.infineon.com/; ComponentLink2Description: Datasheet; ComponentLink2URL: http://www.infineon.com/dgdl/IGP20N60H3_Rev1_2G.pdf?folderId=db3a3043156fd5730115f56849b61941&fileId=db3a3043266237920126b8ae89001ee1; ComponentLink3Description: Package Specification; ComponentLink3URL: http://www.infineon.com/dgdl/BTS117_DS_14.pdf?folderId=db3a30431400ef68011421b54e2e0564&fileId=db3a30433a747525013abff8302d549c&location=en.Products.Automotive_ICs.Smart_High-_and_Low-Side_Switches.HITFET___TEMPFET__-_Smart_Low-Side_Switches.DATASHEET.BTS117_DS_14.pdf
footprint INF-PG-TO220-3-1 (FM, 3-Leads, Body 10x4.4mm, Pitch 2.54mm)
pins: 1 G, 2 C, 3 E

## IGP20N65F5
designator Q?
High Speed 5 FAST IGBT in TRENCHSTOP(TM) 5 Technology, 650 V VCE, -40 to 175 degC, PG-TO220-3, Tube, Green; Manufacturer: Infineon; PartNumber: IGP20N65F5; Eoff (typ): 0.06 mJ; Eon (typ): 0.16 mJ; IC(max) @ 100degrees: 21 A; IC(max) @ 25degrees: 42 A; ICpuls (max): 60 A; P tot (max): 125 W; QGate (typ): 48 nC; td(off) (typ): 165 ns; td(on) (typ): 20 ns; tf (typ): 17 ns; tr (typ): 11 ns; VCE (max): 650 V; VCE(sat) (typ): 1.6 V; DatasheetVersion: Rev. 2.1; PackageVersion: Rev. 05, 08/2007; PackageReference: PG-TO220-3-1_A; PackageDescription: 3-Pin Plastic (Green) Transistor Single Outline Package, 10.03 x 8.98 mm Body, 2.54 mm Pitch; Halogen-free: TRUE; Packing: Tube; Mounting Technology: Through Hole; ComponentLink1Description: Manufacturer URL; ComponentLink1URL: http://www.infineon.com/; ComponentLink2Description: Datasheet; ComponentLink2URL: http://www.infineon.com/dgdl/IGP20N65F5_2_1.pdf?folderId=db3a3043156fd5730115f56849b61941&fileId=5546d461464245d30146a4778c5e6c46; ComponentLink3Description: Package Specification; ComponentLink3URL: http://www.infineon.com/dgdl/IKP30N65H5_2_1.pdf?folderId=db3a3043156fd5730115f56849b61941&fileId=5546d461464245d30146a51a2ca36d28
footprint INF-PG-TO220-3-1_A_V (FM, 3-Leads, Body 10.03x8.98mm, Pitch 2.54mm)
pins: 1 G, 2 C, 3 E

## IGP20N65H5
designator Q?
High Speed 5 FAST IGBT in TRENCHSTOP(TM) 5 Technology, 650 V VCE, -40 to 175 degC, PG-TO220-3, Tube, Green; Manufacturer: Infineon; PartNumber: IGP20N65H5; Eoff (typ): 0.06 mJ; Eon (typ): 0.17 mJ; IC(max) @ 100degrees: 21 A; IC(max) @ 25degrees: 42 A; ICpuls (max): 60 A; P tot (max): 125 W; QGate (typ): 48 nC; td(off) (typ): 156 ns; td(on) (typ): 18 ns; tf (typ): 13 ns; tr (typ): 8 ns; VCE (max): 650 V; VCE(sat) (typ): 1.65 V; DatasheetVersion: Rev. 2.1; PackageVersion: Rev. 05, 08/2007; PackageReference: PG-TO220-3-1_A; PackageDescription: 3-Pin Plastic (Green) Transistor Single Outline Package, 10.03 x 8.98 mm Body, 2.54 mm Pitch; Halogen-free: TRUE; Packing: Tube; Mounting Technology: Through Hole; ComponentLink1Description: Manufacturer URL; ComponentLink1URL: http://www.infineon.com/; ComponentLink2Description: Datasheet; ComponentLink2URL: http://www.infineon.com/dgdl/IGP20N65H5_2_1.pdf?folderId=db3a3043156fd5730115f56849b61941&fileId=5546d461464245d30146a4acee496caa; ComponentLink3Description: Package Specification; ComponentLink3URL: http://www.infineon.com/dgdl/IKP30N65H5_2_1.pdf?folderId=db3a3043156fd5730115f56849b61941&fileId=5546d461464245d30146a51a2ca36d28
footprint INF-PG-TO220-3-1_A_V (FM, 3-Leads, Body 10.03x8.98mm, Pitch 2.54mm)
pins: 1 G, 2 C, 3 E

## IGP30N60H3
designator Q?
600 V High Speed Switching Series Third Generation, PG-TO220-3-1, Tube, Green; Manufacturer: Infineon; PartNumber: IGP30N60H3; Green: TRUE; IC(max) @ 100 degC: 30 A; IC(max) @ 25 degC: 60 A; Switching Frequency: HighSpeed3 20-100kHz; VCE (max): 600 V; VCE(sat) (typ): 1.95 V; DatasheetVersion: Rev. 1.2; PackageVersion: Jul-12; PackageReference: PG-TO220-3-1; PackageDescription: 3-Pin Plastic (Green) Transistor Single Outline Package, 10 x 9.25 mm Body, 2.54 mm Pitch; Supplier 1: Digi-Key; Supplier Part Number 1: IGP30N60H3-ND; Supplier 2: Farnell; Supplier Part Number 2: 1832334; Supplier 3: Mouser; Supplier Part Number 3: 726-IGP30N60H3; Halogen-free: TRUE; Packing: Tube; Mounting Technology: Through Hole; ComponentLink1Description: Manufacturer URL; ComponentLink1URL: http://www.infineon.com/; ComponentLink2Description: Datasheet; ComponentLink2URL: http://www.infineon.com/dgdl/IGP30N60H3_Rev1_2G.pdf?folderId=db3a3043156fd5730115f56849b61941&fileId=db3a3043266237920126b8bf01371ef6; ComponentLink3Description: Package Specification; ComponentLink3URL: http://www.infineon.com/dgdl/BTS117_DS_14.pdf?folderId=db3a30431400ef68011421b54e2e0564&fileId=db3a30433a747525013abff8302d549c&location=en.Products.Automotive_ICs.Smart_High-_and_Low-Side_Switches.HITFET___TEMPFET__-_Smart_Low-Side_Switches.DATASHEET.BTS117_DS_14.pdf
footprint INF-PG-TO220-3-1 (FM, 3-Leads, Body 10x4.4mm, Pitch 2.54mm)
pins: 1 G, 2 C, 3 E

## IGP30N60T
designator Q?
Low Loss IGBT in TrenchStop and Fieldstop Technology, PG-TO-220-3-1, Tube, Green; Manufacturer: Infineon; PartNumber: IGP30N60T; Green: TRUE; IC(max) @ 100 degC: 30 A; IC(max) @ 25 degC: 60 A; Switching Frequency: TRENCHSTOP 2-20kHz; VCE (max): 600 V; VCE(sat) (typ): 1.5 V; DatasheetVersion: Rev. 2.6; PackageVersion: Rev. 05, 08/2007; PackageReference: PG-TO220-3-1; PackageDescription: 3-Pin Plastic (Green) Transistor Single Outline Package, Body 10.03 x 4.435 mm, Pitch 2.54 mm; Supplier 1: Mouser; Supplier Part Number 1: 726-IGP30N60T; Halogen-free: FALSE; Packing: Tube; Mounting Technology: Through Hole; ComponentLink1Description: Manufacturer URL; ComponentLink1URL: http://www.infineon.com/; ComponentLink2Description: Datasheet; ComponentLink2URL: http://www.infineon.com/dgdl/IGP_W30N60T_Rev2_6G.pdf?folderId=db3a304412b407950112b408e8c90004&fileId=db3a304412b407950112b4280f6e3d4e; ComponentLink3Description: Package Specification; ComponentLink3URL: http://www.infineon.com/dgdl/SKP02N60_Rev2_2G%5B1%5D.pdf?folderId=db3a3043156fd5730115f56849b61941&fileId=db3a304323b87bc20123bd282ebf35d6
footprint INF-PG-TO-220-3-1 (FM, 3-Leads, Body 10.03x4.435mm, Pitch 2.54mm)
pins: 1 G, 2 C, 3 E

## IGP30N65F5
designator Q?
High Speed 5 FAST IGBT in TRENCHSTOP(TM) 5 Technology, 650 V VCE, -40 to 175 degC, PG-TO220-3, Tube, Green; Manufacturer: Infineon; PartNumber: IGP30N65F5; Eoff (typ): 0.07 mJ; Eon (typ): 0.28 mJ; IC(max) @ 100degrees: 35 A; IC(max) @ 25degrees: 55 A; ICpuls (max): 90 A; P tot (max): 188 W; QGate (typ): 65 nC; td(off) (typ): 170 ns; td(on) (typ): 19 ns; tf (typ): 10 ns; tr (typ): 9ns; VCE (max): 650 V; VCE(sat) (typ): 1.6 V; DatasheetVersion: Rev. 2.1; PackageVersion: Rev. 05, 08/2007; PackageReference: PG-TO220-3-1_A; PackageDescription: 3-Pin Plastic (Green) Transistor Single Outline Package, 10.03 x 8.98 mm Body, 2.54 mm Pitch; Halogen-free: TRUE; Packing: Tube; Mounting Technology: Through Hole; ComponentLink1Description: Manufacturer URL; ComponentLink1URL: http://www.infineon.com/; ComponentLink2Description: Datasheet; ComponentLink2URL: http://www.infineon.com/dgdl/IGP30N65F5_2_1.pdf?folderId=db3a3043156fd5730115f56849b61941&fileId=5546d461464245d30146a4cd88ff6cbf; ComponentLink3Description: Package Specification; ComponentLink3URL: http://www.infineon.com/dgdl/IKP30N65H5_2_1.pdf?folderId=db3a3043156fd5730115f56849b61941&fileId=5546d461464245d30146a51a2ca36d28
footprint INF-PG-TO220-3-1_A_V (FM, 3-Leads, Body 10.03x8.98mm, Pitch 2.54mm)
pins: 1 G, 2 C, 3 E

## IGP30N65H5
designator Q?
High Speed 5 FAST IGBT in TRENCHSTOP(TM) 5 Technology, 650 V VCE, -40 to 175 degC, PG-TO220-3, Tube, Green; Manufacturer: Infineon; PartNumber: IGP30N65H5; Eoff (typ): 0.1 mJ; Eon (typ): 0.28 mJ; IC(max) @ 100degrees: 35 A; IC(max) @ 25degrees: 55 A; ICpuls (max): 90 A; P tot (max): 188 W; QGate (typ): 70 nC; td(off) (typ): 177 ns; td(on) (typ): 19 ns; tf (typ): 14 ns; tr (typ): 9 ns; VCE (max): 650 V; VCE(sat) (typ): 1.65 V; DatasheetVersion: Rev. 2.1; PackageVersion: Rev. 05, 08/2007; PackageReference: PG-TO220-3-1_A; PackageDescription: 3-Pin Plastic (Green) Transistor Single Outline Package, 10.03 x 8.98 mm Body, 2.54 mm Pitch; Supplier 1: Mouser; Supplier Part Number 1: N/A; Halogen-free: TRUE; Packing: Tube; Mounting Technology: Through Hole; ComponentLink1Description: Manufacturer URL; ComponentLink1URL: http://www.infineon.com/; ComponentLink2Description: Datasheet; ComponentLink2URL: http://www.infineon.com/dgdl/IGP30N65H5_2_1.pdf?folderId=db3a3043156fd5730115f56849b61941&fileId=5546d461464245d30146a4dca9be6ccd; ComponentLink3Description: Package Specification; ComponentLink3URL: http://www.infineon.com/dgdl/IKP30N65H5_2_1.pdf?folderId=db3a3043156fd5730115f56849b61941&fileId=5546d461464245d30146a51a2ca36d28
footprint INF-PG-TO220-3-1_A_V (FM, 3-Leads, Body 10.03x8.98mm, Pitch 2.54mm)
pins: 1 G, 2 C, 3 E

## IGP40N65F5
designator Q?
650 V IGBT High Speed Switching Series Fifth Generation, 74 A IC, PG-TO220-3-123, Tube, Green; Manufacturer: Infineon; PartNumber: IGP40N65F5; Green: TRUE; Group: IGBT without Anti-Parallel Diode; IC(max)@ 100degrees: 46 A; IC(max)@ 25degrees: 74 A; ICpuls(max): 120 A; Ptot(max): 255 W; Switching Frequency: TRENCHSTOP5 10-120 kHz; VCE(max): 650 V; VCE(sat)(typ): 1.6 V; DatasheetVersion: Rev. 1.1; PackageReference: PG-TO220-3-123; PackageDescription: 3-Pin Plastic (Green) Transistor Single Outline Package, Body 15.65 x 10 mm, Pitch 2.54 mm; Supplier 1: Newark; Supplier Part Number 1: 33X0397; Supplier 2: Farnell; Supplier Part Number 2: 2363274; Halogen-free: TRUE; Packing: Tube; Mounting Technology: Through Hole; ComponentLink1Description: Manufacturer URL; ComponentLink1URL: http://www.infineon.com/; ComponentLink2Description: Datasheet; ComponentLink2URL: http://www.infineon.com/dgdl/DS_IGP40N65F5_IGW40N65F5_1_1.pdf?folderId=db3a3043156fd5730115f56849b61941&fileId=db3a30433af5291e013af8d39e535ba1&location=en.Products.IGBTs.IGBT_with_Anti-Parallel_Diode.TRENCHSTOP_5.DATASHEET.DS_IGP40N65F5_IGW40N65F5_1_1.pdf; ComponentLink3Description: Package Specification; ComponentLink3URL: http://www.infineon.com/cms/packages/Leaded_and_through-hole/P-PG-TO220/P-PG-TO220-3-123.html?__locale=en
footprint INF-PG-TO220-3-123_V (FM, 3-Leads, Body 10x9.25mm, Pitch 2.54mm, Recommended)
pins: 1 G, 2 C, 3 E

## IGP40N65H5
designator Q?
650 V IGBT High Speed Switching Series Fifth Generation, 74 A IC, PG-TO220-3-123, Tube, Green; Manufacturer: Infineon; PartNumber: IGP40N65H5; Green: TRUE; Group: IGBT without Anti-Parallel Diode; IC(max)@ 100degrees: 46 A; IC(max)@ 25degrees: 74 A; ICpuls(max): 120 A; Ptot(max): 255 W; Switching Frequency: TRENCHSTOP5 10-120 kHz; VCE(max): 650 V; VCE(sat)(typ): 1.65 V; DatasheetVersion: Rev. 1.1; PackageReference: PG-TO220-3-123; PackageDescription: 3-Pin Plastic (Green) Transistor Single Outline Package, Body 15.65 x 10 mm, Pitch 2.54 mm; Supplier 1: Newark; Supplier Part Number 1: 33X0398; Supplier 2: Farnell; Supplier Part Number 2: 2363275; Halogen-free: TRUE; Packing: Tube; Mounting Technology: Through Hole; ComponentLink1Description: Manufacturer URL; ComponentLink1URL: http://www.infineon.com/; ComponentLink2Description: Datasheet; ComponentLink2URL: http://www.infineon.com/dgdl/IGW40N65F5_1_1.pdf?folderId=db3a3043156fd5730115f56849b61941&fileId=db3a30433af5291e013af52fd5b600b6&location=en.Products.IGBTs.IGBT_with_Anti-Parallel_Diode.TRENCHSTOP_5.DATASHEET.IGW40N65F5_1_1.pdf; ComponentLink3Description: Package Specification; ComponentLink3URL: http://www.infineon.com/cms/packages/Leaded_and_through-hole/P-PG-TO220/P-PG-TO220-3-123.html?__locale=en
footprint INF-PG-TO220-3-123_V (FM, 3-Leads, Body 10x9.25mm, Pitch 2.54mm, Recommended)
pins: 1 G, 2 C, 3 E